# Altium footprint library M20-8900405.PcbLib: 2 footprints
Each footprint in its own frame and in the unit in brackets; x right, y up, seen from the top. Pads: shape width x height; smd on the part's side, far side on the other; paste and mask are expansions set on the pad; w line width, h text height; cw(c..) or ccw(c..) is an arc to the next point about the centre after c.
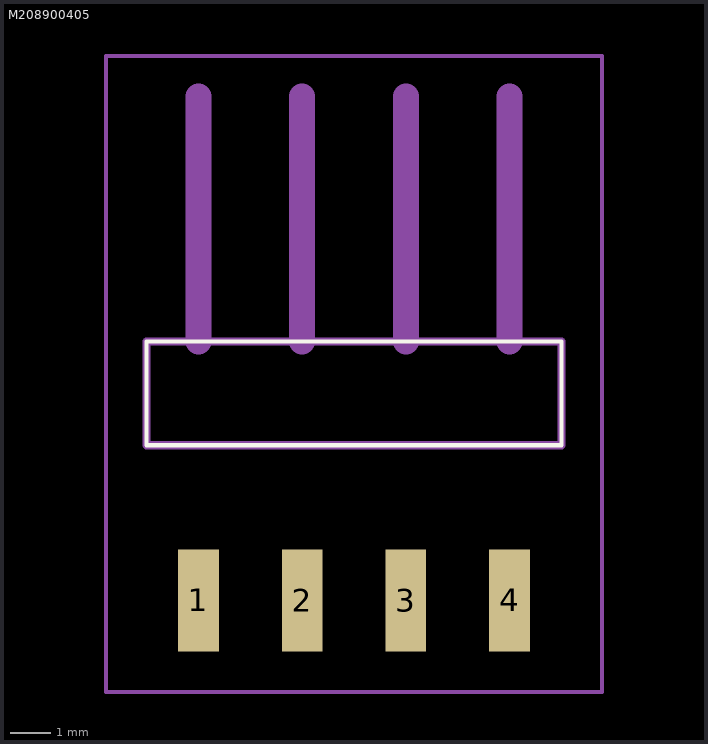
[diagram p0: the footprints below, top view; thin cyan lines are the x and y axes]

## M208900405 [mm]
pads (4):
  rect 1x2.5 smd: 1(-1273.81,-1275.545) 2(-1271.27,-1275.545) 3(-1268.73,-1275.545) 4(-1266.19,-1275.545)
Top Overlay:
  lines w0.1: -1275.08,-1271.745 -1275.08,-1269.205 -1264.92,-1269.205 -1264.92,-1271.745 -1275.08,-1271.745
Mechanical 13:
  lines w0.2: -1275.08,-1271.745 -1275.08,-1269.205 -1264.92,-1269.205 -1264.92,-1271.745 -1275.08,-1271.745
  lines w0.64: -1273.81,-1269.205 -1273.81,-1263.205 ; -1271.27,-1269.205 -1271.27,-1263.205 ; -1268.73,-1269.205 -1268.73,-1263.205 ; -1266.19,-1269.205 -1266.19,-1263.205
Mechanical 15:
  lines w0.1: -1276.08,-1277.795 -1276.08,-1262.205 -1263.92,-1262.205 -1263.92,-1277.795 -1276.08,-1277.795

## PCBComponent_1 [mm]